# EAGLE library part IR2010SPBF (library IR2010SPBF)
International Rectifier IR2010SPBF, Dual MOSFET Power Driver, 3A, 3.3 20 V, Non-Inverting, 16-Pin SOIC <http://uk.rs-online.com/largeimages/SOICW-16.jpg> Source: Datasheet
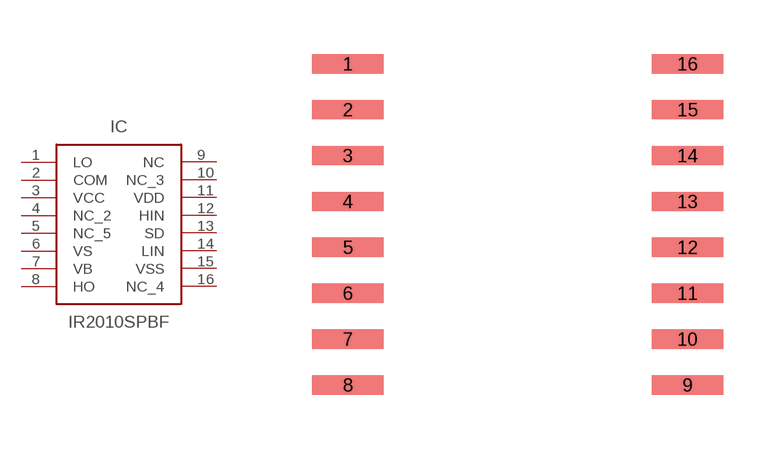
[diagram p0: symbol with the pads of SOIC127P1032X265-16N; footprint SOIC127P1032X265-16N]

Designator prefix IC

## IR2010SPBF (Description: International Rectifier IR2010SPBF, Dual MOSFET Power Driver, 3A, 3.3 20 V, Non-Inverting, 16-Pin SOIC; Height: mm; Manufacturer_Name: International Rectifier; Manufacturer_Part_Number: IR2010SPBF; RS_Part_Number: 2509056226; Supplier_Name: RS)  [SOIC127P1032X265-16N]
1  LO  pas
2  COM  pas
3  VCC  pas
4  NC_2  pas
5  NC_5  pas
6  VS  pas
7  VB  pas
8  HO  pas
9  NC  nc
10  NC_3  pas
11  VDD  pas
12  HIN  pas
13  SD  pas
14  LIN  pas
15  VSS  pas
16  NC_4  pas

## Footprint SOIC127P1032X265-16N (pad centres in mm)
SOIC127P1032X265-16N
smd 1.981 x 0.533: 1 -4.699,4.445; 2 -4.699,3.175; 3 -4.699,1.905; 4 -4.699,0.635; 5 -4.699,-0.635; 6 -4.699,-1.905; 7 -4.699,-3.175; 8 -4.699,-4.445; 9 4.699,-4.445; 10 4.699,-3.175; 11 4.699,-1.905; 12 4.699,-0.635; 13 4.699,0.635; 14 4.699,1.905; 15 4.699,3.175; 16 4.699,4.445